# Altium footprint library 2021-06-30_23-28-13.PcbLib: 3 footprints
Each footprint in its own frame and in the unit in brackets; x right, y up, seen from the top. Pads: shape width x height; smd on the part's side, far side on the other; paste and mask are expansions set on the pad; w line width, h text height; cw(c..) or ccw(c..) is an arc to the next point about the centre after c.
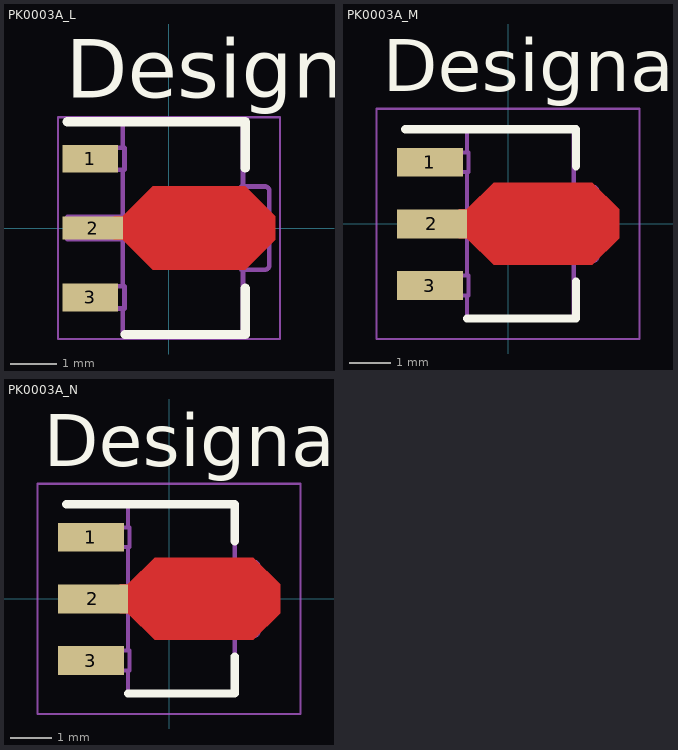
[diagram p0: the footprints below, top view; thin cyan lines are the x and y axes]

## PK0003A_L [mm]
pads (3):
  rect 1.2x0.6 smd paste+0 mask+0.051: 1(-1.7,1.5) 3(-1.7,-1.5)
  rect 1.3x0.5 smd paste+0 mask+0.051: 2(-1.65,0)
Top Layer:
  region: -1.2,0.25 -1,0.25 -0.35,0.9 1.65,0.9 2.3,0.25 2.3,-0.25 1.65,-0.9 -0.35,-0.9 -1,-0.25 -1.2,-0.25
Top Overlay:
  lines w0.2: -2.2,2.3 1.65,2.3 1.65,1.3 ; -0.95,-2.3 1.65,-2.3 1.65,-1.3
  text "Designator9" at -2.235,2.819 h1.27
Top Paste:
  region: -1.2,0.25 -1,0.25 -0.35,0.9 1.65,0.9 2.3,0.25 2.3,-0.25 1.65,-0.9 -0.35,-0.9 -1,-0.25 -1.2,-0.25
Top Solder:
  region: -1.2,0.301 -1.021,0.301 -0.386,0.936 -0.378,0.942 -0.369,0.947 -0.36,0.95 -0.35,0.951 1.65,0.951 1.66,0.95 1.669,0.947 1.678,0.942 1.686,0.936 2.336,0.286 2.342,0.278 2.347,0.269 2.35,0.26 2.351,0.25 2.351,-0.25 2.35,-0.26 2.347,-0.269 2.342,-0.278 2.336,-0.286 1.686,-0.936 1.678,-0.942 1.669,-0.947 1.66,-0.95 1.65,-0.951 -0.35,-0.951 -0.36,-0.95 -0.369,-0.947 -0.378,-0.942 -0.386,-0.936 -1.021,-0.301 -1.2,-0.301 -1.21,-0.3 -1.219,-0.297 -1.228,-0.292 -1.236,-0.286 -1.242,-0.278 -1.247,-0.269 -1.25,-0.26 -1.251,-0.25 -1.251,0.25 -1.25,0.26 -1.247,0.269 -1.242,0.278 -1.236,0.286 -1.228,0.292 -1.219,0.297 -1.21,0.3
Mechanical 13:
  lines w0.1: -1,-1.74 -1,-2.3 1.6,-2.3 1.6,-0.9 ; -1,-1.26 -1,-0.24 ; -1,0.24 -1,1.26 ; -1,1.74 -1,2.3 1.6,2.3 1.6,0.9 ; -2.2,-1.74 -0.962,-1.74 -0.962,-1.26 -2.2,-1.26 -2.2,-1.74 ; -2.2,-0.24 -2.2,0.24 -0.962,0.24 -0.962,-0.24 -2.2,-0.24 ; -2.2,1.26 -2.2,1.74 -0.962,1.74 -0.962,1.26 -2.2,1.26 ; 1.562,-0.9 2.072,-0.9 ccw(c2.072,-0.8) 2.172,-0.8 2.172,0.8 ccw(c2.072,0.8) 2.072,0.9 1.562,0.9 1.562,-0.9
  text ".Designator" at -1.035,1.85 h1.27
Mechanical 15:
  lines w0.05: -2.4,-2.4 2.4,-2.4 2.4,2.4 -2.4,2.4 -2.4,-2.4
  lines w0.1: -0.5,0 0.5,0 ; 0,-0.5 0,0.5
3D body: height 0.25, standoff 0, extent 0,0 0.254,0.254

## PK0003A_M [mm]
pads (3):
  rect 1.6x0.7 smd paste+0 mask+0.051: 1(-1.9,1.5) 3(-1.9,-1.5)
  rect 1.7x0.7 smd paste+0 mask+0.051: 2(-1.85,0)
Top Layer:
  region: -1.2,0.35 -1,0.35 -0.35,1 2.05,1 2.7,0.35 2.7,-0.35 2.05,-1 -0.35,-1 -1,-0.35 -1.2,-0.35
Top Overlay:
  lines w0.2: -2.5,2.3 1.651,2.3 1.651,1.4 ; -1,-2.3 1.651,-2.3 1.651,-1.4
  text "Designator9" at -3.048,3.226 h1.27
Top Paste:
  region: -1.2,0.35 -1,0.35 -0.35,1 2.05,1 2.7,0.35 2.7,-0.35 2.05,-1 -0.35,-1 -1,-0.35 -1.2,-0.35
Top Solder:
  region: -1.2,0.401 -1.021,0.401 -0.386,1.036 -0.378,1.042 -0.369,1.047 -0.36,1.05 -0.35,1.051 2.05,1.051 2.06,1.05 2.069,1.047 2.078,1.042 2.086,1.036 2.736,0.386 2.742,0.378 2.747,0.369 2.75,0.36 2.751,0.35 2.751,-0.35 2.75,-0.36 2.747,-0.369 2.742,-0.378 2.736,-0.386 2.086,-1.036 2.078,-1.042 2.069,-1.047 2.06,-1.05 2.05,-1.051 -0.35,-1.051 -0.36,-1.05 -0.369,-1.047 -0.378,-1.042 -0.386,-1.036 -1.021,-0.401 -1.2,-0.401 -1.21,-0.4 -1.219,-0.397 -1.228,-0.392 -1.236,-0.386 -1.242,-0.378 -1.247,-0.369 -1.25,-0.36 -1.251,-0.35 -1.251,0.35 -1.25,0.36 -1.247,0.369 -1.242,0.378 -1.236,0.386 -1.228,0.392 -1.219,0.397 -1.21,0.4
Mechanical 13:
  lines w0.1: -1,-1.74 -1,-2.3 1.6,-2.3 1.6,-0.9 ; -1,-1.26 -1,-0.24 ; -1,0.24 -1,1.26 ; -1,1.74 -1,2.3 1.6,2.3 1.6,0.9 ; -2.2,-1.74 -2.2,-1.26 -0.962,-1.26 -0.962,-1.74 -2.2,-1.74 ; -2.2,-0.24 -0.962,-0.24 -0.962,0.24 -2.2,0.24 -2.2,-0.24 ; -2.2,1.26 -0.962,1.26 -0.962,1.74 -2.2,1.74 -2.2,1.26 ; 1.562,-0.9 1.562,0.9 2.072,0.9 cw(c2.072,0.8) 2.172,0.8 2.172,-0.8 cw(c2.072,-0.8) 2.072,-0.9 1.562,-0.9
  text ".Designator" at -1.035,1.85 h1.27
Mechanical 15:
  lines w0.05: -3.2,-2.8 -3.2,2.8 3.2,2.8 3.2,-2.8 -3.2,-2.8
  lines w0.1: -0.5,0 0.5,0 ; 0,-0.5 0,0.5
3D body: height 0.25, standoff 0, extent 0,0 0.254,0.254

## PK0003A_N [mm]
pads (3):
  rect 1.6x0.7 smd paste+0 mask+0.051: 1(-1.9,1.5) 3(-1.9,-1.5)
  rect 1.7x0.7 smd paste+0 mask+0.051: 2(-1.85,0)
Top Layer:
  region: -1.2,0.35 -1,0.35 -0.35,1 2.05,1 2.7,0.35 2.7,-0.35 2.05,-1 -0.35,-1 -1,-0.35 -1.2,-0.35
Top Overlay:
  lines w0.2: -2.5,2.3 1.6,2.3 1.6,1.4 ; -1,-2.3 1.6,-2.3 1.6,-1.4
  text "Designator9" at -3.048,3.226 h1.27
Top Paste:
  region: -1.2,0.35 -1,0.35 -0.35,1 2.05,1 2.7,0.35 2.7,-0.35 2.05,-1 -0.35,-1 -1,-0.35 -1.2,-0.35
Top Solder:
  region: -1.2,0.401 -1.021,0.401 -0.386,1.036 -0.378,1.042 -0.369,1.047 -0.36,1.05 -0.35,1.051 2.05,1.051 2.06,1.05 2.069,1.047 2.078,1.042 2.086,1.036 2.736,0.386 2.742,0.378 2.747,0.369 2.75,0.36 2.751,0.35 2.751,-0.35 2.75,-0.36 2.747,-0.369 2.742,-0.378 2.736,-0.386 2.086,-1.036 2.078,-1.042 2.069,-1.047 2.06,-1.05 2.05,-1.051 -0.35,-1.051 -0.36,-1.05 -0.369,-1.047 -0.378,-1.042 -0.386,-1.036 -1.021,-0.401 -1.2,-0.401 -1.21,-0.4 -1.219,-0.397 -1.228,-0.392 -1.236,-0.386 -1.242,-0.378 -1.247,-0.369 -1.25,-0.36 -1.251,-0.35 -1.251,0.35 -1.25,0.36 -1.247,0.369 -1.242,0.378 -1.236,0.386 -1.228,0.392 -1.219,0.397 -1.21,0.4
Mechanical 13:
  lines w0.1: -1,-1.74 -1,-2.3 1.6,-2.3 1.6,-0.9 ; -1,-1.26 -1,-0.24 ; -1,0.24 -1,1.26 ; -1,1.74 -1,2.3 1.6,2.3 1.6,0.9 ; -2.2,-1.74 -2.2,-1.26 -0.962,-1.26 -0.962,-1.74 -2.2,-1.74 ; -2.2,-0.24 -0.962,-0.24 -0.962,0.24 -2.2,0.24 -2.2,-0.24 ; -2.2,1.26 -0.962,1.26 -0.962,1.74 -2.2,1.74 -2.2,1.26 ; 1.562,-0.9 1.562,0.9 2.072,0.9 cw(c2.072,0.8) 2.172,0.8 2.172,-0.8 cw(c2.072,-0.8) 2.072,-0.9 1.562,-0.9
  text ".Designator" at -1.035,1.85 h1.27
Mechanical 15:
  lines w0.05: -3.2,-2.8 -3.2,2.8 3.2,2.8 3.2,-2.8 -3.2,-2.8
  lines w0.1: -0.5,0 0.5,0 ; 0,-0.5 0,0.5
3D body: height 0.25, standoff 0, extent 0,0 0.254,0.254